# EAGLE library part SIP24 (library 2010.09.20)
Single In Line Modified to resemble Game Gear card edge connector. Pins would ideally be 0.15" long and not have holes in them. Pads will be replaced with polygons once dimensions have been verified. Drawn by Darren Lue Choy µ 2010.09.21
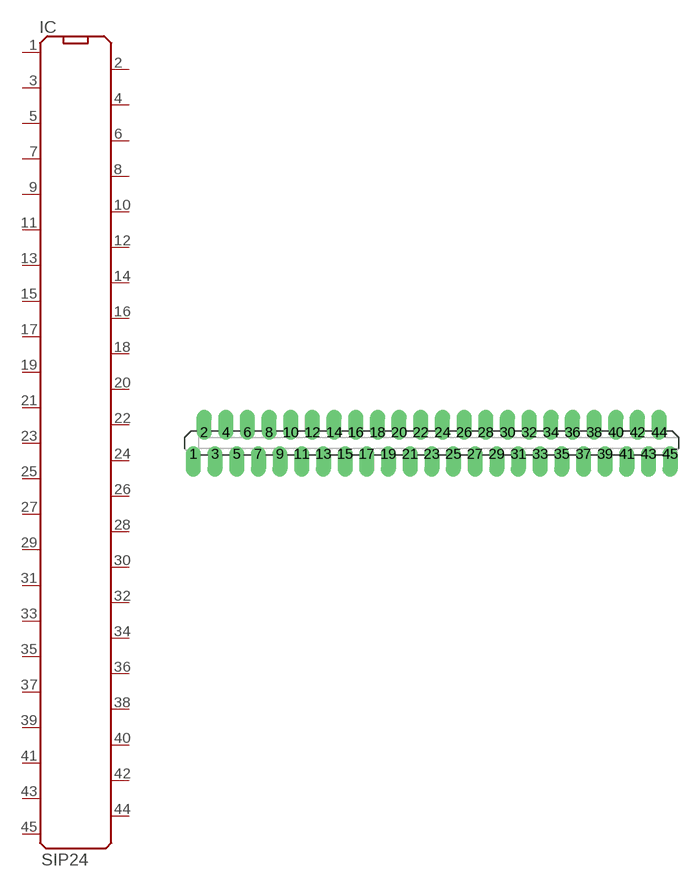
[diagram p4: symbol with the pads of ZIP45; footprint ZIP45]

Designator prefix IC

## SIP24  [ZIP45]
1  1  pas
2  2  pas
3  3  pas
4  4  pas
5  5  pas
6  6  pas
7  7  pas
8  8  pas
9  9  pas
10  10  pas
11  11  pas
12  12  pas
13  13  pas
14  14  pas
15  15  pas
16  16  pas
17  17  pas
18  18  pas
19  19  pas
20  20  pas
21  21  pas
22  22  pas
23  23  pas
24  24  pas
25  25  pas
26  26  pas
27  27  pas
28  28  pas
29  29  pas
30  30  pas
31  31  pas
32  32  pas
33  33  pas
34  34  pas
35  35  pas
36  36  pas
37  37  pas
38  38  pas
39  39  pas
40  40  pas
41  41  pas
42  42  pas
43  43  pas
44  44  pas
45  45  pas

## Footprint ZIP45 (pad centres in mm)
Single In Line Socket Modified to resemble the Game Gear cardedge connector. The pads would ideally be 0.2" long, and not have holes. When the pin spacings have been confirmed this will be redrawn using named polygons. Drawn by D Lue Choy µ 2010.09.21
drill 0.5 pad 1.778 offset: 1 -27.94,-1.27; 2 -26.67,1.27; 3 -25.4,-1.27; 4 -24.13,1.27; 5 -22.86,-1.27; 6 -21.59,1.27; 7 -20.32,-1.27; 8 -19.05,1.27; 9 -17.78,-1.27; 10 -16.51,1.27; 11 -15.24,-1.27; 12 -13.97,1.27; 13 -12.7,-1.27; 14 -11.43,1.27; 15 -10.16,-1.27; 16 -8.89,1.27; 17 -7.62,-1.27; 18 -6.35,1.27; 19 -5.08,-1.27; 20 -3.81,1.27; 21 -2.54,-1.27; 22 -1.27,1.27; 23 0,-1.27; 24 1.27,1.27; 25 2.54,-1.27; 26 3.81,1.27; 27 5.08,-1.27; 28 6.35,1.27; 29 7.62,-1.27; 30 8.89,1.27; 31 10.16,-1.27; 32 11.43,1.27; 33 12.7,-1.27; 34 13.97,1.27; 35 15.24,-1.27; 36 16.51,1.27; 37 17.78,-1.27; 38 19.05,1.27; 39 20.32,-1.27; 40 21.59,1.27; 41 22.86,-1.27; 42 24.13,1.27; 43 25.4,-1.27; 44 26.67,1.27; 45 27.94,-1.27